# EAGLE library part AD7779ACPZ (library NM_Visual_Cortex_12-10-18)
Sigma-Delta ADC 24bit 16ksps / LFCSP-64
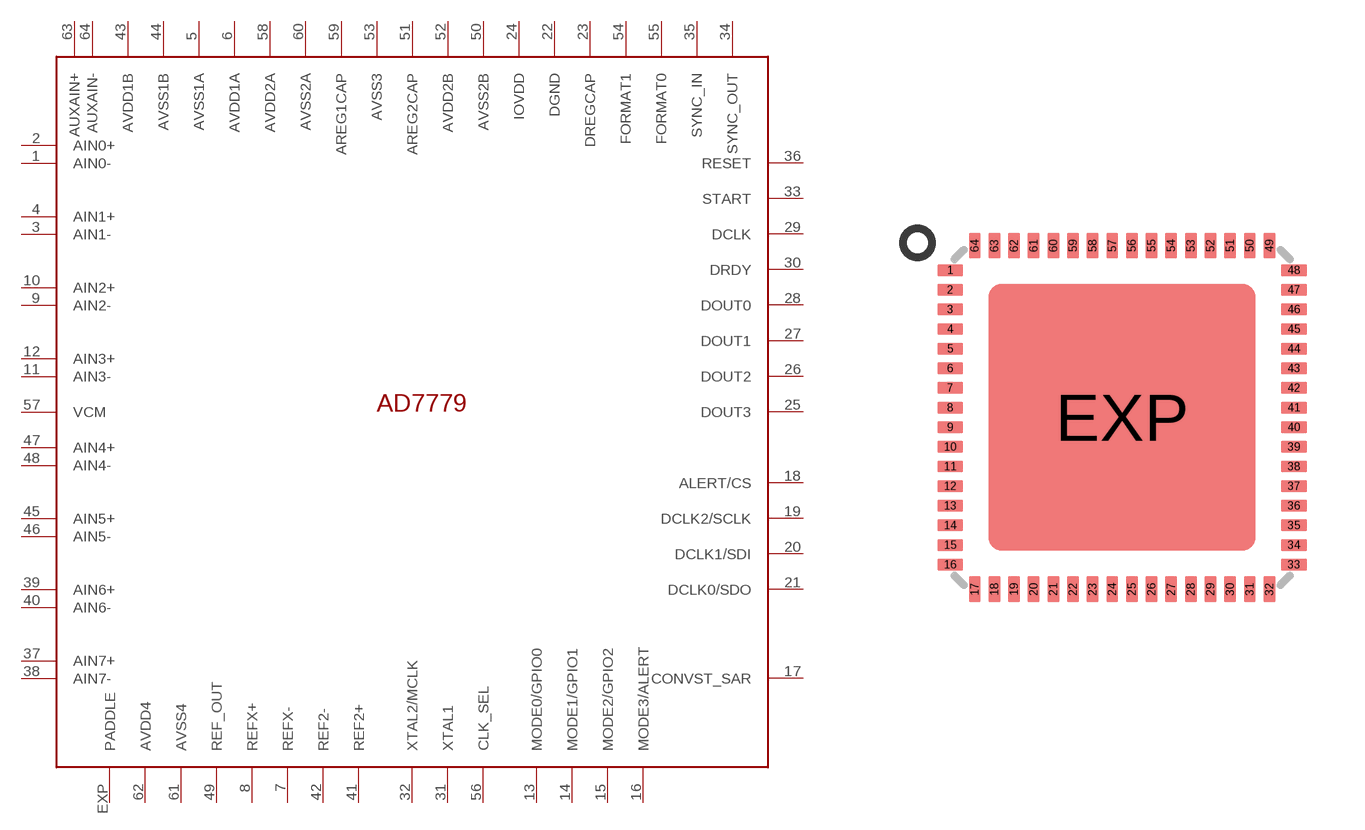
[diagram p10: symbol with the pads of LFCSP64; footprint LFCSP64]

Designator prefix U

## AD7779ACPZ (DESCRIPTION: Sigma-Delta ADC 24bit 16ksps; MF: Analog Device; MP: AD7779ACPZ; PACKAGE: LFCSP-64)  [LFCSP64]
1  AIN0-
2  AIN0+
3  AIN1-
4  AIN1+
5  AVSS1A
6  AVDD1A
7  REFX-
8  REFX+
9  AIN2-
10  AIN2+
11  AIN3-
12  AIN3+
13  MODE0/GPIO0
14  MODE1/GPIO1
15  MODE2/GPIO2
16  MODE3/ALERT
17  CONVST_SAR
18  ALERT/CS
19  DCLK2/SCLK
20  DCLK1/SDI
21  DCLK0/SDO
22  DGND
23  DREGCAP
24  IOVDD
25  DOUT3
26  DOUT2
27  DOUT1
28  DOUT0
29  DCLK
30  DRDY
31  XTAL1
32  XTAL2/MCLK
33  START
34  SYNC_OUT
35  SYNC_IN
36  RESET
37  AIN7+
38  AIN7-
39  AIN6+
40  AIN6-
41  REF2+
42  REF2-
43  AVDD1B
44  AVSS1B
45  AIN5+
46  AIN5-
47  AIN4+
48  AIN4-
49  REF_OUT
50  AVSS2B
51  AREG2CAP
52  AVDD2B
53  AVSS3
54  FORMAT1
55  FORMAT0
56  CLK_SEL
57  VCM
58  AVDD2A
59  AREG1CAP
60  AVSS2A
61  AVSS4
62  AVDD4
63  AUXAIN+
64  AUXAIN-
EXP  PADDLE

## Footprint LFCSP64 (pad centres in mm)
64-Lead Lead Frame Chip Scale Package [LFCSP] CP-64-1 9 x 9 mm Body
smd 0.65 x 0.3: 1 -4.375,3.75; 2 -4.375,3.25; 3 -4.375,2.75; 4 -4.375,2.25; 5 -4.375,1.75; 6 -4.375,1.25; 7 -4.375,0.75; 8 -4.375,0.25; 9 -4.375,-0.25; 10 -4.375,-0.75; 11 -4.375,-1.25; 12 -4.375,-1.75; 13 -4.375,-2.25; 14 -4.375,-2.75; 15 -4.375,-3.25; 16 -4.375,-3.75; 33 4.375,-3.75; 34 4.375,-3.25; 35 4.375,-2.75; 36 4.375,-2.25; 37 4.375,-1.75; 38 4.375,-1.25; 39 4.375,-0.75; 40 4.375,-0.25; 41 4.375,0.25; 42 4.375,0.75; 43 4.375,1.25; 44 4.375,1.75; 45 4.375,2.25; 46 4.375,2.75; 47 4.375,3.25; 48 4.375,3.75
smd 0.3 x 0.65: 17 -3.75,-4.375; 18 -3.25,-4.375; 19 -2.75,-4.375; 20 -2.25,-4.375; 21 -1.75,-4.375; 22 -1.25,-4.375; 23 -0.75,-4.375; 24 -0.25,-4.375; 25 0.25,-4.375; 26 0.75,-4.375; 27 1.25,-4.375; 28 1.75,-4.375; 29 2.25,-4.375; 30 2.75,-4.375; 31 3.25,-4.375; 32 3.75,-4.375; 49 3.75,4.375; 50 3.25,4.375; 51 2.75,4.375; 52 2.25,4.375; 53 1.75,4.375; 54 1.25,4.375; 55 0.75,4.375; 56 0.25,4.375; 57 -0.25,4.375; 58 -0.75,4.375; 59 -1.25,4.375; 60 -1.75,4.375; 61 -2.25,4.375; 62 -2.75,4.375; 63 -3.25,4.375; 64 -3.75,4.375
smd 6.8 x 6.8: EXP 0,0